# Altium footprint library Heat-Sinks.PcbLib: 58 footprints (part 3 of 4)
Each footprint in its own frame and in the unit in brackets; x right, y up, seen from the top. Pads: shape width x height; smd on the part's side, far side on the other; paste and mask are expansions set on the pad; w line width, h text height; cw(c..) or ccw(c..) is an arc to the next point about the centre after c.
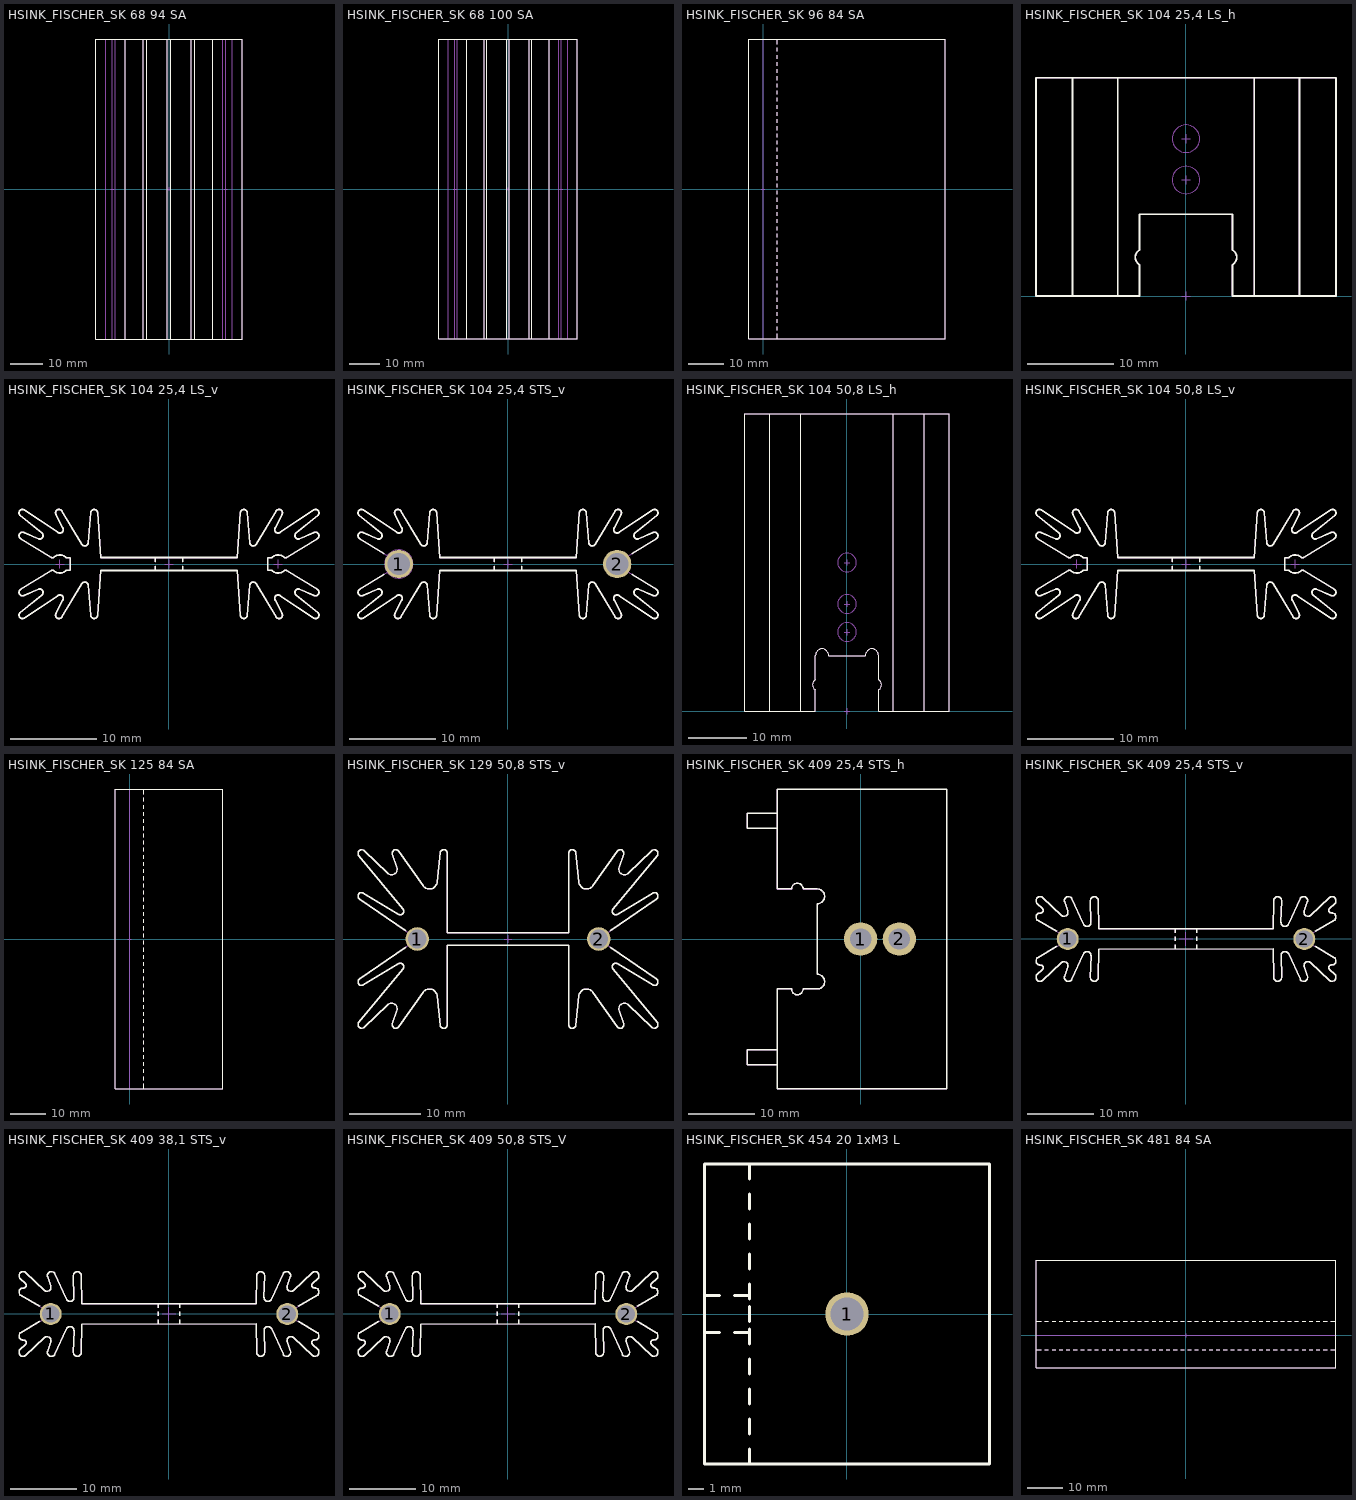
[diagram p2: the footprints below, top view; thin cyan lines are the x and y axes]

## HSINK_FISCHER_SK 68 94 SA [mm] "L94 x W46 x H33mm, Black anodised Extruded Heat Sink for PCB with Thread Profile for M3 Screw Mounting"
height 28
Top Overlay:
  lines w0.2: -13.75,-47 -13.75,47 ; -8,-47 -8,47 ; -7,-47 -7,47 ; -0.5,-47 -0.5,47 ; 0.5,-47 0.5,47 ; 7,-47 7,47 ; 8,-47 8,47 ; 13.75,-47 13.75,47 ; 17.8,-47 23,-47 ; 23,-47 23,47 -23,47 -23,-47 23,-47
Mechanical 8:
  lines w0.05: -18.3,0 -17.8,0 ; -17.8,-0.5 -17.8,0 ; -17.8,0.5 -17.8,0 ; -17.8,47 -17.8,-47 -17.8,0 ; -17.3,0 -17.8,0 ; -0.5,0 0,0 ; 0,-0.5 0,0 ; 0,0.5 0,0 ; 0.5,0 0,0 ; 17.3,0 17.8,0 ; 17.8,-47 17.8,47 ; 17.8,-0.5 17.8,0 ; 17.8,0.5 17.8,0 ; 18.3,0 17.8,0
Mechanical 14:
  lines w0.1: -19.875,-47 -19.875,47 ; -16.875,-47 -16.875,47 ; -13.75,-47 -13.75,47 ; -8,-47 -8,47 ; -7,-47 -7,47 ; -0.5,-47 -0.5,47 ; 0.5,-47 0.5,47 ; 7,-47 7,47 ; 8,-47 8,47 ; 13.75,-47 13.75,47 ; 16.875,-47 16.875,47 ; 17.8,-47 23,-47 ; 19.875,-47 19.875,47 ; 23,-47 23,47 -23,47 -23,-47 23,-47
3D body "HSINK_FISCHER_SK 68 94 SA.stp": height 33, standoff 0, extent -23,-47 23,47

## HSINK_FISCHER_SK 68 100 SA [mm] "L100 x W46 x H33mm, Black anodised Extruded Heat Sink for PCB with Thread Profile for M3 Screw Mounting"
height 28
Top Overlay:
  lines w0.2: -13.75,-50 -13.75,50 ; -8,-50 -8,50 ; -7,-50 -7,50 ; -0.5,-50 -0.5,50 ; 0.5,-50 0.5,50 ; 7,-50 7,50 ; 8,-50 8,50 ; 13.75,-50 13.75,50 ; -23,-50 -23,50 23,50 23,-50 -23,-50
Mechanical 8:
  lines w0.05: -18.3,0 -17.8,0 ; -17.8,-0.5 -17.8,0 ; -17.8,0.5 -17.8,0 ; -17.8,50 -17.8,-50 -17.8,0 ; -17.3,0 -17.8,0 ; -0.5,0 0,0 ; 0,-0.5 0,0 ; 0,0.5 0,0 ; 0.5,0 0,0 ; 17.3,0 17.8,0 ; 17.8,-50 17.8,50 ; 17.8,-0.5 17.8,0 ; 17.8,0.5 17.8,0 ; 18.3,0 17.8,0
Mechanical 14:
  lines w0.1: -19.875,-50 -19.875,50 ; -16.875,-50 -16.875,50 ; -13.75,-50 -13.75,50 ; -8,-50 -8,50 ; -7,-50 -7,50 ; -0.5,-50 -0.5,50 ; 0.5,-50 0.5,50 ; 7,-50 7,50 ; 8,-50 8,50 ; 13.75,-50 13.75,50 ; 16.875,-50 16.875,50 ; 19.875,-50 19.875,50 ; -23,-50 -23,50 23,50 23,-50 -23,-50
3D body "HSINK_FISCHER_SK 68 100 SA.stp": height 33, standoff 0, extent -23,-50 23,50

## HSINK_FISCHER_SK 96 84 SA [mm] "L84 x W55 x H28mm, Black anodised Extruded Heatsink for PCB with M3 Profile Thread for Screw Mounting"
height 28
Top Overlay:
  lines w0.2: 4,-42 4,-40.5 ; 4,-39.5 4,-38.5 ; 4,-37.5 4,-36.5 ; 4,-35.5 4,-34.5 ; 4,-33.5 4,-32.5 ; 4,-31.5 4,-30.5 ; 4,-29.5 4,-28.5 ; 4,-27.5 4,-26.5 ; 4,-25.5 4,-24.5 ; 4,-23.5 4,-22.5 ; 4,-21.5 4,-20.5 ; 4,-19.5 4,-18.5 ; 4,-17.5 4,-16.5 ; 4,-15.5 4,-14.5 ; 4,-13.5 4,-12.5 ; 4,-11.5 4,-10.5 ; 4,-9.5 4,-8.5 ; 4,-7.5 4,-6.5 ; 4,-5.5 4,-4.5 ; 4,-3.5 4,-2.5 ; 4,-1.5 4,-0.5 ; 4,0.5 4,1.5 ; 4,2.5 4,3.5 ; 4,4.5 4,5.5 ; 4,6.5 4,7.5 ; 4,8.5 4,9.5 ; 4,10.5 4,11.5 ; 4,12.5 4,13.5 ; 4,14.5 4,15.5 ; 4,16.5 4,17.5 ; 4,18.5 4,19.5 ; 4,20.5 4,21.5 ; 4,22.5 4,23.5 ; 4,24.5 4,25.5 ; 4,26.5 4,27.5 ; 4,28.5 4,29.5 ; 4,30.5 4,31.5 ; 4,32.5 4,33.5 ; 4,34.5 4,35.5 ; 4,36.5 4,37.5 ; 4,38.5 4,39.5 ; 4,40.5 4,42 ; -4,-42 51,-42 51,42 -4,42 -4,-42
Mechanical 8:
  lines w0.1: -0.5,0 0,0 ; 0,-42 0,42 ; 0,-0.5 0,0 ; 0,0.5 0,0 ; 0.5,0 0,0
Mechanical 14:
  lines w0.1: 4,-42 4,-40.5 ; 4,-39.5 4,-38.5 ; 4,-37.5 4,-36.5 ; 4,-35.5 4,-34.5 ; 4,-33.5 4,-32.5 ; 4,-31.5 4,-30.5 ; 4,-29.5 4,-28.5 ; 4,-27.5 4,-26.5 ; 4,-25.5 4,-24.5 ; 4,-23.5 4,-22.5 ; 4,-21.5 4,-20.5 ; 4,-19.5 4,-18.5 ; 4,-17.5 4,-16.5 ; 4,-15.5 4,-14.5 ; 4,-13.5 4,-12.5 ; 4,-11.5 4,-10.5 ; 4,-9.5 4,-8.5 ; 4,-7.5 4,-6.5 ; 4,-5.5 4,-4.5 ; 4,-3.5 4,-2.5 ; 4,-1.5 4,-0.5 ; 4,0.5 4,1.5 ; 4,2.5 4,3.5 ; 4,4.5 4,5.5 ; 4,6.5 4,7.5 ; 4,8.5 4,9.5 ; 4,10.5 4,11.5 ; 4,12.5 4,13.5 ; 4,14.5 4,15.5 ; 4,16.5 4,17.5 ; 4,18.5 4,19.5 ; 4,20.5 4,21.5 ; 4,22.5 4,23.5 ; 4,24.5 4,25.5 ; 4,26.5 4,27.5 ; 4,28.5 4,29.5 ; 4,30.5 4,31.5 ; 4,32.5 4,33.5 ; 4,34.5 4,35.5 ; 4,36.5 4,37.5 ; 4,38.5 4,39.5 ; 4,40.5 4,42 ; -4,-42 51,-42 51,42 -4,42 -4,-42
3D body "HSINK_FISCHER_SK 96 84 SA.stp": height 27.98, standoff -0.02, extent -4,-42 51,42

## HSINK_FISCHER_SK 104 25,4 LS_h [mm] "Extruded Heatsinks Rth: 14K/W  - Horizontal Mount  - Body L 25.4 x W 34.9 H 12.7mm"
height 25.4
Top Overlay:
  lines w0.2: -13.2,0 -13.2,25.4 ; -7.95,0 -7.95,25.4 ; 7.95,0 7.95,25.4 ; 13.2,0 13.2,25.4 ; -17.45,0 -17.45,25.4 17.45,25.4 17.45,0 5.4,0 5.4,3.634 ccw(c4.9,4.5) 5.4,5.366 5.4,9.5 -5.4,9.5 -5.4,5.366 ccw(c-4.9,4.5) -5.4,3.634 -5.4,0 -17.45,0
Mechanical 8:
  lines w0.1: -0.5,0 0,0 ; -0.5,13.5 0,13.5 ; -0.5,18.3 0,18.3 ; 0,-0.5 0,0 ; 0,0.5 0,0 ; 0,13 0,13.5 ; 0,14 0,13.5 ; 0,17.8 0,18.3 ; 0,18.8 0,18.3 ; 0.5,0 0,0 ; 0.5,13.5 0,13.5 ; 0.5,18.3 0,18.3
Mechanical 14:
  circle w0.1: c0,13.5 r1.6
  circle w0.1: c0,18.3 r1.6
  lines w0.1: -13.2,0 -13.2,25.4 ; -7.95,0 -7.95,25.4 ; 7.95,0 7.95,25.4 ; 13.2,0 13.2,25.4 ; -17.45,0 -17.45,25.4 17.45,25.4 17.45,0 5.4,0 5.4,3.634 ccw(c4.9,4.5) 5.4,5.366 5.4,9.5 -5.4,9.5 -5.4,5.366 ccw(c-4.9,4.5) -5.4,3.634 -5.4,0 -17.45,0
3D body "HSINK_FISCHER_SK 104 25,4 LS_h.stp": height 12.7, standoff 0, extent -17.449,0 17.449,25.4

## HSINK_FISCHER_SK 104 25,4 LS_v [mm] "Rth: 14K/W - Extruded Heatsinks for PCB mounting, Body L 34.9 x W 12.7 x H 25.4mm"
height 25.4
Top Overlay:
  lines w0.2: -1.6,-0.75 -1.6,-0.25 ; -1.6,0.25 -1.6,0.75 ; 1.6,-0.75 1.6,-0.25 ; 1.6,0.25 1.6,0.75 ; 13.379,-0.801 cw(c13.573,-1.03) 13.731,-0.775 17.261,-2.96 cw(c17.05,-3.3) 16.89,-3.667 15.21,-2.933 ccw(c15.05,-3.3) 14.798,-3.611 17.302,-5.639 cw(c17.05,-5.95) 16.827,-6.282 12.923,-3.668 ccw(c12.7,-4) 12.344,-4.182 13.156,-5.768 cw(c12.8,-5.95) 12.457,-6.156 10.143,-2.294 ccw(c9.8,-2.5) 9.402,-2.466 9.099,-5.984 cw(c8.7,-5.95) 8.301,-5.977 7.95,-0.75 -7.95,-0.75 -8.301,-5.977 cw(c-8.7,-5.95) -9.098,-5.984 -9.401,-2.466 ccw(c-9.8,-2.5) -10.143,-2.294 -12.457,-6.156 cw(c-12.8,-5.95) -13.156,-5.768 -12.344,-4.182 ccw(c-12.7,-4) -12.923,-3.668 -16.827,-6.282 cw(c-17.05,-5.95) -17.302,-5.639 -14.798,-3.611 ccw(c-15.05,-3.3) -15.21,-2.933 -16.89,-3.667 cw(c-17.05,-3.3) -17.26,-2.96 -13.731,-0.775 cw(c-13.573,-1.03) -13.379,-0.801 ccw(c-12.7,0) -11.945,-0.73 -11.5,-0.73 -11.5,0.73 -11.945,0.73 ccw(c-12.7,0) -13.379,0.801 cw(c-13.573,1.03) -13.731,0.775 -17.26,2.96 cw(c-17.05,3.3) -16.89,3.667 -15.21,2.933 ccw(c-15.05,3.3) -14.798,3.611 -17.302,5.639 cw(c-17.05,5.95) -16.827,6.282 -12.923,3.668 ccw(c-12.7,4) -12.344,4.182 -13.156,5.768 cw(c-12.8,5.95) -12.457,6.156 -10.143,2.294 ccw(c-9.8,2.5) -9.401,2.466 -9.098,5.984 cw(c-8.7,5.95) -8.301,5.977 -7.95,0.75 7.95,0.75 8.301,5.977 cw(c8.7,5.95) 9.099,5.984 9.402,2.466 ccw(c9.8,2.5) 10.143,2.294 12.457,6.156 cw(c12.8,5.95) 13.156,5.768 12.344,4.182 ccw(c12.7,4) 12.923,3.668 16.827,6.282 cw(c17.05,5.95) 17.302,5.639 14.798,3.611 ccw(c15.05,3.3) 15.21,2.933 16.89,3.667 cw(c17.05,3.3) 17.261,2.96 13.731,0.775 cw(c13.573,1.03) 13.379,0.801 ; 13.379,-0.801 cw(c12.7,0) 11.945,-0.73 11.5,-0.73 11.5,0.73 11.945,0.73 cw(c12.7,0) 13.379,0.801
Mechanical 8:
  lines w0.1: -13.2,0 -12.7,0 ; -12.7,-0.5 -12.7,0 ; -12.7,0.5 -12.7,0 ; -12.2,0 -12.7,0 ; -0.5,0 0,0 ; 0,-0.5 0,0 ; 0,0.5 0,0 ; 0.5,0 0,0 ; 12.2,0 12.7,0 ; 12.7,-0.5 12.7,0 ; 12.7,0.5 12.7,0 ; 13.2,0 12.7,0
Mechanical 14:
  lines w0.1: -1.6,-0.75 -1.6,-0.25 ; -1.6,0.25 -1.6,0.75 ; 1.6,-0.75 1.6,-0.25 ; 1.6,0.25 1.6,0.75 ; 13.379,-0.801 cw(c13.573,-1.03) 13.731,-0.775 17.261,-2.96 cw(c17.05,-3.3) 16.89,-3.667 15.21,-2.933 ccw(c15.05,-3.3) 14.798,-3.611 17.302,-5.639 cw(c17.05,-5.95) 16.827,-6.282 12.923,-3.668 ccw(c12.7,-4) 12.344,-4.182 13.156,-5.768 cw(c12.8,-5.95) 12.457,-6.156 10.143,-2.294 ccw(c9.8,-2.5) 9.402,-2.466 9.099,-5.984 cw(c8.7,-5.95) 8.301,-5.977 7.95,-0.75 -7.95,-0.75 -8.301,-5.977 cw(c-8.7,-5.95) -9.098,-5.984 -9.401,-2.466 ccw(c-9.8,-2.5) -10.143,-2.294 -12.457,-6.156 cw(c-12.8,-5.95) -13.156,-5.768 -12.344,-4.182 ccw(c-12.7,-4) -12.923,-3.668 -16.827,-6.282 cw(c-17.05,-5.95) -17.302,-5.639 -14.798,-3.611 ccw(c-15.05,-3.3) -15.21,-2.933 -16.89,-3.667 cw(c-17.05,-3.3) -17.26,-2.96 -13.731,-0.775 cw(c-13.573,-1.03) -13.379,-0.801 ccw(c-12.7,0) -11.945,-0.73 -11.5,-0.73 -11.5,0.73 -11.945,0.73 ccw(c-12.7,0) -13.379,0.801 cw(c-13.573,1.03) -13.731,0.775 -17.26,2.96 cw(c-17.05,3.3) -16.89,3.667 -15.21,2.933 ccw(c-15.05,3.3) -14.798,3.611 -17.302,5.639 cw(c-17.05,5.95) -16.827,6.282 -12.923,3.668 ccw(c-12.7,4) -12.344,4.182 -13.156,5.768 cw(c-12.8,5.95) -12.457,6.156 -10.143,2.294 ccw(c-9.8,2.5) -9.401,2.466 -9.098,5.984 cw(c-8.7,5.95) -8.301,5.977 -7.95,0.75 7.95,0.75 8.301,5.977 cw(c8.7,5.95) 9.099,5.984 9.402,2.466 ccw(c9.8,2.5) 10.143,2.294 12.457,6.156 cw(c12.8,5.95) 13.156,5.768 12.344,4.182 ccw(c12.7,4) 12.923,3.668 16.827,6.282 cw(c17.05,5.95) 17.302,5.639 14.798,3.611 ccw(c15.05,3.3) 15.21,2.933 16.89,3.667 cw(c17.05,3.3) 17.261,2.96 13.731,0.775 cw(c13.573,1.03) 13.379,0.801 ; 13.379,-0.801 cw(c12.7,0) 11.945,-0.73 11.5,-0.73 11.5,0.73 11.945,0.73 cw(c12.7,0) 13.379,0.801
3D body "HSINK_FISCHER_SK 104 25,4 LS_v.stp": height 25.4, standoff 0, extent -17.449,-6.35 17.449,6.35

## HSINK_FISCHER_SK 104 25,4 STS_v [mm] "Extruded Heatsink Rth: 14K/W, Vertical Mount With Solder Pins , Body L 34.9 x W 12.7 x H 25.4mm"
height 25.4
pads (2):
  round 3.3 hole 2.6: 1(-12.7,0) 2(12.7,0)
Top Overlay:
  lines w0.2: -14.464,-1.229 -17.26,-2.96 ccw(c-17.05,-3.3) -16.89,-3.667 -15.21,-2.933 cw(c-15.05,-3.3) -14.798,-3.611 -17.302,-5.639 ccw(c-17.05,-5.95) -16.827,-6.282 -12.922,-3.668 cw(c-12.7,-4) -12.344,-4.182 -13.156,-5.768 ccw(c-12.8,-5.95) -12.457,-6.156 -10.143,-2.294 cw(c-9.8,-2.5) -9.401,-2.466 -9.098,-5.984 ccw(c-8.7,-5.95) -8.301,-5.977 -7.95,-0.75 7.95,-0.75 8.301,-5.977 ccw(c8.7,-5.95) 9.099,-5.984 9.402,-2.466 cw(c9.8,-2.5) 10.143,-2.294 12.457,-6.156 ccw(c12.8,-5.95) 13.156,-5.768 12.344,-4.182 cw(c12.7,-4) 12.923,-3.668 16.828,-6.282 ccw(c17.05,-5.95) 17.302,-5.639 14.798,-3.611 cw(c15.05,-3.3) 15.21,-2.933 16.89,-3.667 ccw(c17.05,-3.3) 17.261,-2.96 14.464,-1.229 ; -14.464,1.229 -17.26,2.96 cw(c-17.05,3.3) -16.89,3.667 -15.21,2.933 ccw(c-15.05,3.3) -14.798,3.611 -17.302,5.639 cw(c-17.05,5.95) -16.827,6.282 -12.922,3.668 ccw(c-12.7,4) -12.344,4.182 -13.156,5.768 cw(c-12.8,5.95) -12.457,6.156 -10.143,2.294 ccw(c-9.8,2.5) -9.401,2.466 -9.098,5.984 cw(c-8.7,5.95) -8.301,5.977 -7.95,0.75 7.95,0.75 8.301,5.977 cw(c8.7,5.95) 9.099,5.984 9.402,2.466 ccw(c9.8,2.5) 10.143,2.294 12.457,6.156 cw(c12.8,5.95) 13.156,5.768 12.344,4.182 ccw(c12.7,4) 12.923,3.668 16.828,6.282 cw(c17.05,5.95) 17.302,5.639 14.798,3.611 ccw(c15.05,3.3) 15.21,2.933 16.89,3.667 cw(c17.05,3.3) 17.261,2.96 14.464,1.229 ; -1.6,-0.75 -1.6,-0.25 ; -1.6,0.25 -1.6,0.75 ; 1.6,-0.75 1.6,-0.25 ; 1.6,0.25 1.6,0.75
Mechanical 8:
  circle w0.1: c-12.7,0 r1.65
  circle w0.1: c-12.7,0 r1.3
  lines w0.1: -13.2,0 -12.7,0 ; -12.7,-0.5 -12.7,0 ; -12.7,0.5 -12.7,0 ; -12.2,0 -12.7,0 ; -0.5,0 0,0 ; 0,-0.5 0,0 ; 0,0.5 0,0 ; 0.5,0 0,0 ; 12.2,0 12.7,0 ; 12.7,-0.5 12.7,0 ; 12.7,0.5 12.7,0 ; 13.2,0 12.7,0
Mechanical 14:
  circle w0.1: c12.7,0 r1
  circle w0.1: c12.7,0 r0.75
  circle w0.1: c-12.7,0 r1
  circle w0.1: c-12.7,0 r0.75
  lines w0.1: -1.6,-0.75 -1.6,-0.25 ; -1.6,0.25 -1.6,0.75 ; 1.6,-0.75 1.6,-0.25 ; 1.6,0.25 1.6,0.75 ; -17.302,-5.639 ccw(c-17.05,-5.95) -16.827,-6.282 -12.922,-3.668 cw(c-12.7,-4) -12.344,-4.182 -13.156,-5.768 ccw(c-12.8,-5.95) -12.457,-6.156 -10.143,-2.294 cw(c-9.8,-2.5) -9.401,-2.466 -9.098,-5.984 ccw(c-8.7,-5.95) -8.301,-5.977 -7.95,-0.75 7.95,-0.75 8.301,-5.977 ccw(c8.7,-5.95) 9.099,-5.984 9.402,-2.466 cw(c9.8,-2.5) 10.143,-2.294 12.457,-6.156 ccw(c12.8,-5.95) 13.156,-5.768 12.344,-4.182 cw(c12.7,-4) 12.923,-3.668 16.828,-6.282 ccw(c17.05,-5.95) 17.302,-5.639 14.798,-3.611 cw(c15.05,-3.3) 15.21,-2.933 16.89,-3.667 ccw(c17.05,-3.3) 17.261,-2.96 13.731,-0.775 ccw(c13.573,-1.03) 13.379,-0.801 cw(c12.7,0) 11.945,-0.73 11.5,-0.73 11.5,0.73 11.945,0.73 cw(c12.7,0) 13.379,0.801 ccw(c13.573,1.03) 13.731,0.775 17.261,2.96 ccw(c17.05,3.3) 16.89,3.667 15.21,2.933 cw(c15.05,3.3) 14.798,3.611 17.302,5.639 ccw(c17.05,5.95) 16.828,6.282 12.923,3.668 cw(c12.7,4) 12.344,4.182 13.156,5.768 ccw(c12.8,5.95) 12.457,6.156 10.143,2.294 cw(c9.8,2.5) 9.402,2.466 9.099,5.984 ccw(c8.7,5.95) 8.301,5.977 7.95,0.75 -7.95,0.75 -8.301,5.977 ccw(c-8.7,5.95) -9.098,5.984 -9.401,2.466 cw(c-9.8,2.5) -10.143,2.294 -12.457,6.156 ccw(c-12.8,5.95) -13.156,5.768 -12.344,4.182 cw(c-12.7,4) -12.922,3.668 -16.827,6.282 ccw(c-17.05,5.95) -17.302,5.639 -14.798,3.611 cw(c-15.05,3.3) -15.21,2.933 -16.89,3.667 ccw(c-17.05,3.3) -17.26,2.96 -13.731,0.775 ccw(c-13.573,1.03) -13.379,0.801 cw(c-12.7,0) -11.945,0.73 -11.5,0.73 -11.5,-0.73 -11.945,-0.73 cw(c-12.7,0) -13.379,-0.801 ccw(c-13.573,-1.03) -13.731,-0.775 -17.26,-2.96 ccw(c-17.05,-3.3) -16.89,-3.667 -15.21,-2.933 cw(c-15.05,-3.3) -14.798,-3.611 -17.302,-5.639
3D body "HSINK_FISCHER_SK 104 25,4 STS_v.stp": height 25.4, standoff -4.5, extent -17.449,-6.35 17.449,6.35

## HSINK_FISCHER_SK 104 50,8 LS_h [mm] "Extruded Heatsinks Rth: 9K/W  - Horizontal Mount  - Body L 50.8 x W 34.9 H 12.7mm"
height 12.7
Top Overlay:
  lines w0.2: -13.2,0 -13.2,50.8 ; -13.2,0 -16.827,0 -17.45,0 -17.45,50.8 -16.827,50.8 -13.2,50.8 ; -13.2,0 -12.457,0 -10.143,0 -9.401,0 -9.098,0 -8.301,0 -7.95,0 ; -13.2,50.8 -12.457,50.8 -10.143,50.8 -9.401,50.8 -9.098,50.8 -8.301,50.8 -7.95,50.8 ; -7.95,0 -5.4,0 -5.4,3.634 cw(c-4.9,4.5) -5.4,5.366 -5.4,9.5 cw(c-4.27,9.5) -3.14,9.5 3.14,9.5 cw(c4.27,9.5) 5.4,9.5 5.4,5.366 cw(c4.9,4.5) 5.4,3.634 5.4,0 7.95,0 ; -7.95,0 -7.95,50.8 ; -7.95,50.8 7.95,50.8 ; 7.95,0 8.301,0 9.099,0 9.402,0 10.143,0 12.457,0 13.2,0 ; 7.95,0 7.95,50.8 ; 7.95,50.8 8.301,50.8 9.099,50.8 9.402,50.8 10.143,50.8 12.457,50.8 13.2,50.8 ; 13.2,0 13.2,50.8 ; 13.2,0 16.828,0 17.45,0 17.45,50.8 16.828,50.8 13.2,50.8
Mechanical 8:
  lines w0.05: -0.5,0 0,0 ; -0.5,13.5 0,13.5 ; -0.5,18.3 0,18.3 ; -0.5,25.4 0,25.4 ; 0,-0.5 0,0 ; 0,0.5 0,0 ; 0,13 0,13.5 ; 0,14 0,13.5 ; 0,17.8 0,18.3 ; 0,18.8 0,18.3 ; 0,24.9 0,25.4 ; 0,25.9 0,25.4 ; 0.5,0 0,0 ; 0.5,13.5 0,13.5 ; 0.5,18.3 0,18.3 ; 0.5,25.4 0,25.4
Mechanical 14:
  circle w0.1: c0,25.4 r1.6
  circle w0.1: c0,18.3 r1.6
  circle w0.1: c0,13.5 r1.6
  lines w0.1: -13.2,0 -13.2,50.8 ; -13.2,0 -16.827,0 -17.45,0 -17.45,50.8 -16.827,50.8 -13.2,50.8 ; -13.2,0 -12.457,0 -10.143,0 -9.401,0 -9.098,0 -8.301,0 -7.95,0 ; -13.2,50.8 -12.457,50.8 -10.143,50.8 -9.401,50.8 -9.098,50.8 -8.301,50.8 -7.95,50.8 ; -7.95,0 -5.4,0 -5.4,3.634 cw(c-4.9,4.5) -5.4,5.366 -5.4,9.5 cw(c-4.27,9.5) -3.14,9.5 3.14,9.5 cw(c4.27,9.5) 5.4,9.5 5.4,5.366 cw(c4.9,4.5) 5.4,3.634 5.4,0 7.95,0 ; -7.95,0 -7.95,50.8 ; -7.95,50.8 7.95,50.8 ; 7.95,0 8.301,0 9.099,0 9.402,0 10.143,0 12.457,0 13.2,0 ; 7.95,0 7.95,50.8 ; 7.95,50.8 8.301,50.8 9.099,50.8 9.402,50.8 10.143,50.8 12.457,50.8 13.2,50.8 ; 13.2,0 13.2,50.8 ; 13.2,0 16.828,0 17.45,0 17.45,50.8 16.828,50.8 13.2,50.8
3D body "HSINK_FISCHER_SK 104 50,8 LS_h.stp": height 12.7, standoff 0, extent -17.449,0 17.449,50.8

## HSINK_FISCHER_SK 104 50,8 LS_v [mm] "Rth: 9K/W - Extruded Heatsinks for PCB mounting, Body L 34.9 x W 12.7 x H 50.8mm"
height 50.8
Top Overlay:
  lines w0.2: -1.6,-0.75 -1.6,-0.25 ; -1.6,0.25 -1.6,0.75 ; 1.6,-0.75 1.6,-0.25 ; 1.6,0.25 1.6,0.75 ; 13.379,-0.801 cw(c13.573,-1.03) 13.731,-0.775 17.261,-2.96 cw(c17.05,-3.3) 16.89,-3.667 15.21,-2.933 ccw(c15.05,-3.3) 14.798,-3.611 17.302,-5.639 cw(c17.05,-5.95) 16.827,-6.282 12.923,-3.668 ccw(c12.7,-4) 12.344,-4.182 13.156,-5.768 cw(c12.8,-5.95) 12.457,-6.156 10.143,-2.294 ccw(c9.8,-2.5) 9.402,-2.466 9.099,-5.984 cw(c8.7,-5.95) 8.301,-5.977 7.95,-0.75 -7.95,-0.75 -8.301,-5.977 cw(c-8.7,-5.95) -9.098,-5.984 -9.401,-2.466 ccw(c-9.8,-2.5) -10.143,-2.294 -12.457,-6.156 cw(c-12.8,-5.95) -13.156,-5.768 -12.344,-4.182 ccw(c-12.7,-4) -12.923,-3.668 -16.827,-6.282 cw(c-17.05,-5.95) -17.302,-5.639 -14.798,-3.611 ccw(c-15.05,-3.3) -15.21,-2.933 -16.89,-3.667 cw(c-17.05,-3.3) -17.26,-2.96 -13.731,-0.775 cw(c-13.573,-1.03) -13.379,-0.801 ccw(c-12.7,0) -11.945,-0.73 -11.5,-0.73 -11.5,0.73 -11.945,0.73 ccw(c-12.7,0) -13.379,0.801 cw(c-13.573,1.03) -13.731,0.775 -17.26,2.96 cw(c-17.05,3.3) -16.89,3.667 -15.21,2.933 ccw(c-15.05,3.3) -14.798,3.611 -17.302,5.639 cw(c-17.05,5.95) -16.827,6.282 -12.923,3.668 ccw(c-12.7,4) -12.344,4.182 -13.156,5.768 cw(c-12.8,5.95) -12.457,6.156 -10.143,2.294 ccw(c-9.8,2.5) -9.401,2.466 -9.098,5.984 cw(c-8.7,5.95) -8.301,5.977 -7.95,0.75 7.95,0.75 8.301,5.977 cw(c8.7,5.95) 9.099,5.984 9.402,2.466 ccw(c9.8,2.5) 10.143,2.294 12.457,6.156 cw(c12.8,5.95) 13.156,5.768 12.344,4.182 ccw(c12.7,4) 12.923,3.668 16.827,6.282 cw(c17.05,5.95) 17.302,5.639 14.798,3.611 ccw(c15.05,3.3) 15.21,2.933 16.89,3.667 cw(c17.05,3.3) 17.261,2.96 13.731,0.775 cw(c13.573,1.03) 13.379,0.801 ; 13.379,-0.801 cw(c12.7,0) 11.945,-0.73 11.5,-0.73 11.5,0.73 11.945,0.73 cw(c12.7,0) 13.379,0.801
Mechanical 8:
  lines w0.1: -13.2,0 -12.7,0 ; -12.7,-0.5 -12.7,0 ; -12.7,0.5 -12.7,0 ; -12.2,0 -12.7,0 ; -0.5,0 0,0 ; 0,-0.5 0,0 ; 0,0.5 0,0 ; 0.5,0 0,0 ; 12.2,0 12.7,0 ; 12.7,-0.5 12.7,0 ; 12.7,0.5 12.7,0 ; 13.2,0 12.7,0
Mechanical 14:
  lines w0.1: -1.6,-0.75 -1.6,-0.25 ; -1.6,0.25 -1.6,0.75 ; 1.6,-0.75 1.6,-0.25 ; 1.6,0.25 1.6,0.75 ; 13.379,-0.801 cw(c13.573,-1.03) 13.731,-0.775 17.261,-2.96 cw(c17.05,-3.3) 16.89,-3.667 15.21,-2.933 ccw(c15.05,-3.3) 14.798,-3.611 17.302,-5.639 cw(c17.05,-5.95) 16.827,-6.282 12.923,-3.668 ccw(c12.7,-4) 12.344,-4.182 13.156,-5.768 cw(c12.8,-5.95) 12.457,-6.156 10.143,-2.294 ccw(c9.8,-2.5) 9.402,-2.466 9.099,-5.984 cw(c8.7,-5.95) 8.301,-5.977 7.95,-0.75 -7.95,-0.75 -8.301,-5.977 cw(c-8.7,-5.95) -9.098,-5.984 -9.401,-2.466 ccw(c-9.8,-2.5) -10.143,-2.294 -12.457,-6.156 cw(c-12.8,-5.95) -13.156,-5.768 -12.344,-4.182 ccw(c-12.7,-4) -12.923,-3.668 -16.827,-6.282 cw(c-17.05,-5.95) -17.302,-5.639 -14.798,-3.611 ccw(c-15.05,-3.3) -15.21,-2.933 -16.89,-3.667 cw(c-17.05,-3.3) -17.26,-2.96 -13.731,-0.775 cw(c-13.573,-1.03) -13.379,-0.801 ccw(c-12.7,0) -11.945,-0.73 -11.5,-0.73 -11.5,0.73 -11.945,0.73 ccw(c-12.7,0) -13.379,0.801 cw(c-13.573,1.03) -13.731,0.775 -17.26,2.96 cw(c-17.05,3.3) -16.89,3.667 -15.21,2.933 ccw(c-15.05,3.3) -14.798,3.611 -17.302,5.639 cw(c-17.05,5.95) -16.827,6.282 -12.923,3.668 ccw(c-12.7,4) -12.344,4.182 -13.156,5.768 cw(c-12.8,5.95) -12.457,6.156 -10.143,2.294 ccw(c-9.8,2.5) -9.401,2.466 -9.098,5.984 cw(c-8.7,5.95) -8.301,5.977 -7.95,0.75 7.95,0.75 8.301,5.977 cw(c8.7,5.95) 9.099,5.984 9.402,2.466 ccw(c9.8,2.5) 10.143,2.294 12.457,6.156 cw(c12.8,5.95) 13.156,5.768 12.344,4.182 ccw(c12.7,4) 12.923,3.668 16.827,6.282 cw(c17.05,5.95) 17.302,5.639 14.798,3.611 ccw(c15.05,3.3) 15.21,2.933 16.89,3.667 cw(c17.05,3.3) 17.261,2.96 13.731,0.775 cw(c13.573,1.03) 13.379,0.801 ; 13.379,-0.801 cw(c12.7,0) 11.945,-0.73 11.5,-0.73 11.5,0.73 11.945,0.73 cw(c12.7,0) 13.379,0.801
3D body "HSINK_FISCHER_SK 104 50,8 LS_v.stp": height 50.8, standoff 0, extent -17.449,-6.35 17.449,6.35

## HSINK_FISCHER_SK 125 84 SA [mm] "L84 x W30 x H28mm, Black anodised Extruded Heatsink for PCB with M3 Profile Thread for Screw Mounting"
height 28
Top Overlay:
  lines w0.2: 4,-42 4,-40.5 ; 4,-39.5 4,-38.5 ; 4,-37.5 4,-36.5 ; 4,-35.5 4,-34.5 ; 4,-33.5 4,-32.5 ; 4,-31.5 4,-30.5 ; 4,-29.5 4,-28.5 ; 4,-27.5 4,-26.5 ; 4,-25.5 4,-24.5 ; 4,-23.5 4,-22.5 ; 4,-21.5 4,-20.5 ; 4,-19.5 4,-18.5 ; 4,-17.5 4,-16.5 ; 4,-15.5 4,-14.5 ; 4,-13.5 4,-12.5 ; 4,-11.5 4,-10.5 ; 4,-9.5 4,-8.5 ; 4,-7.5 4,-6.5 ; 4,-5.5 4,-4.5 ; 4,-3.5 4,-2.5 ; 4,-1.5 4,-0.5 ; 4,0.5 4,1.5 ; 4,2.5 4,3.5 ; 4,4.5 4,5.5 ; 4,6.5 4,7.5 ; 4,8.5 4,9.5 ; 4,10.5 4,11.5 ; 4,12.5 4,13.5 ; 4,14.5 4,15.5 ; 4,16.5 4,17.5 ; 4,18.5 4,19.5 ; 4,20.5 4,21.5 ; 4,22.5 4,23.5 ; 4,24.5 4,25.5 ; 4,26.5 4,27.5 ; 4,28.5 4,29.5 ; 4,30.5 4,31.5 ; 4,32.5 4,33.5 ; 4,34.5 4,35.5 ; 4,36.5 4,37.5 ; 4,38.5 4,39.5 ; 4,40.5 4,42 ; 26,-42 26,42 -4,42 -4,-42 26,-42
Mechanical 8:
  lines w0.1: -0.5,0 0,0 ; 0,-42 0,42 ; 0,-0.5 0,0 ; 0,0.5 0,0 ; 0.5,0 0,0
Mechanical 14:
  lines w0.1: 4,-42 4,-40.5 ; 4,-39.5 4,-38.5 ; 4,-37.5 4,-36.5 ; 4,-35.5 4,-34.5 ; 4,-33.5 4,-32.5 ; 4,-31.5 4,-30.5 ; 4,-29.5 4,-28.5 ; 4,-27.5 4,-26.5 ; 4,-25.5 4,-24.5 ; 4,-23.5 4,-22.5 ; 4,-21.5 4,-20.5 ; 4,-19.5 4,-18.5 ; 4,-17.5 4,-16.5 ; 4,-15.5 4,-14.5 ; 4,-13.5 4,-12.5 ; 4,-11.5 4,-10.5 ; 4,-9.5 4,-8.5 ; 4,-7.5 4,-6.5 ; 4,-5.5 4,-4.5 ; 4,-3.5 4,-2.5 ; 4,-1.5 4,-0.5 ; 4,0.5 4,1.5 ; 4,2.5 4,3.5 ; 4,4.5 4,5.5 ; 4,6.5 4,7.5 ; 4,8.5 4,9.5 ; 4,10.5 4,11.5 ; 4,12.5 4,13.5 ; 4,14.5 4,15.5 ; 4,16.5 4,17.5 ; 4,18.5 4,19.5 ; 4,20.5 4,21.5 ; 4,22.5 4,23.5 ; 4,24.5 4,25.5 ; 4,26.5 4,27.5 ; 4,28.5 4,29.5 ; 4,30.5 4,31.5 ; 4,32.5 4,33.5 ; 4,34.5 4,35.5 ; 4,36.5 4,37.5 ; 4,38.5 4,39.5 ; 4,40.5 4,42 ; 26,-42 26,42 -4,42 -4,-42 26,-42
3D body "HSINK_FISCHER_SK 125 84 SA.stp": height 27.98, standoff -0.02, extent -4,-42 26,42

## HSINK_FISCHER_SK 129 50,8 STS_v [mm] "Extruded Heat Sink Rth: 5.3°C/W  - Vertical Mount - Height 50.8mm, Vertical Mount"
height 50.8
pads (2):
  round 3.3 hole 2.6: 1(-12.7,0) 2(12.7,0)
Top Overlay:
  lines w0.2: -14.345,-1.137 -20.784,-5.589 ccw(c-20.5,-6) -20.241,-6.428 -15.359,-3.472 cw(c-15.1,-3.9) -14.715,-4.219 -20.885,-11.681 ccw(c-20.5,-12) -20.155,-12.362 -16.851,-9.22 cw(c-16.3,-9.8) -15.546,-10.067 -16.171,-11.833 ccw(c-15.7,-12) -15.291,-12.288 -11.9,-7.467 cw(c-11,-8.1) -9.905,-7.99 -9.497,-12.05 ccw(c-9,-12) -8.5,-12 -8.5,-0.9 8.5,-0.9 8.5,-12 ccw(c9,-12) 9.498,-12.05 9.906,-7.99 cw(c11,-8.1) 11.9,-7.467 15.291,-12.288 ccw(c15.7,-12) 16.171,-11.833 15.546,-10.067 cw(c16.3,-9.8) 16.851,-9.22 20.156,-12.362 ccw(c20.5,-12) 20.885,-11.681 14.715,-4.219 cw(c15.1,-3.9) 15.359,-3.472 20.241,-6.428 ccw(c20.5,-6) 20.784,-5.589 14.345,-1.137 ; -14.345,1.137 -20.784,5.589 cw(c-20.5,6) -20.241,6.428 -15.359,3.472 ccw(c-15.1,3.9) -14.715,4.219 -20.885,11.681 cw(c-20.5,12) -20.155,12.362 -16.851,9.22 ccw(c-16.3,9.8) -15.546,10.067 -16.171,11.833 cw(c-15.7,12) -15.291,12.288 -11.9,7.467 ccw(c-11,8.1) -9.905,7.99 -9.497,12.05 cw(c-9,12) -8.5,12 -8.5,0.9 8.5,0.9 8.5,12 cw(c9,12) 9.498,12.05 9.906,7.99 ccw(c11,8.1) 11.9,7.467 15.291,12.288 cw(c15.7,12) 16.171,11.833 15.546,10.067 ccw(c16.3,9.8) 16.851,9.22 20.156,12.362 cw(c20.5,12) 20.885,11.681 14.715,4.219 ccw(c15.1,3.9) 15.359,3.472 20.241,6.428 cw(c20.5,6) 20.784,5.589 14.345,1.137
Mechanical 8:
  lines w0.05: -13.2,0 -12.7,0 ; -12.7,-0.5 -12.7,0 ; -12.7,0.5 -12.7,0 ; -12.2,0 -12.7,0 ; -0.5,0 0,0 ; 0,-0.5 0,0 ; 0,0.5 0,0 ; 0.5,0 0,0 ; 12.2,0 12.7,0 ; 12.7,-0.5 12.7,0 ; 12.7,0.5 12.7,0 ; 13.2,0 12.7,0
Mechanical 14:
  lines w0.1: -13.616,0.695 ccw(c-12.7,0) -13.61,-0.704 ; -11.784,-0.695 ccw(c-12.7,0) -11.784,0.695 ; 11.784,-0.695 cw(c12.7,0) 11.55,0 cw(c12.7,0) 11.784,0.695 ; 13.616,-0.695 ccw(c12.7,0) 13.616,0.695 ; -20.885,-11.681 ccw(c-20.5,-12) -20.155,-12.362 -16.851,-9.22 cw(c-16.3,-9.8) -15.546,-10.067 -16.171,-11.833 ccw(c-15.7,-12) -15.291,-12.288 -11.9,-7.467 cw(c-11,-8.1) -9.905,-7.99 -9.497,-12.05 ccw(c-9,-12) -8.5,-12 -8.5,-0.9 8.5,-0.9 8.5,-12 ccw(c9,-12) 9.498,-12.05 9.906,-7.99 cw(c11,-8.1) 11.9,-7.467 15.291,-12.288 ccw(c15.7,-12) 16.171,-11.833 15.546,-10.067 cw(c16.3,-9.8) 16.851,-9.22 20.156,-12.362 ccw(c20.5,-12) 20.885,-11.681 14.715,-4.219 cw(c15.1,-3.9) 15.359,-3.472 20.241,-6.428 ccw(c20.5,-6) 20.784,-5.589 13.783,-0.748 ccw(c13.612,-0.995) 13.41,-0.774 cw(c12.7,0) 11.913,-0.695 11.5,-0.695 11.5,0.695 11.913,0.695 cw(c12.7,0) 13.41,0.774 ccw(c13.612,0.995) 13.783,0.748 20.784,5.589 ccw(c20.5,6) 20.241,6.428 15.359,3.472 cw(c15.1,3.9) 14.715,4.219 20.885,11.681 ccw(c20.5,12) 20.156,12.362 16.851,9.22 cw(c16.3,9.8) 15.546,10.067 16.171,11.833 ccw(c15.7,12) 15.291,12.288 11.9,7.467 cw(c11,8.1) 9.906,7.99 9.498,12.05 ccw(c9,12) 8.5,12 8.5,0.9 -8.5,0.9 -8.5,12 ccw(c-9,12) -9.497,12.05 -9.905,7.99 cw(c-11,8.1) -11.9,7.467 -15.291,12.288 ccw(c-15.7,12) -16.171,11.833 -15.546,10.067 cw(c-16.3,9.8) -16.851,9.22 -20.155,12.362 ccw(c-20.5,12) -20.885,11.681 -14.715,4.219 cw(c-15.1,3.9) -15.359,3.472 -20.241,6.428 ccw(c-20.5,6) -20.784,5.589 -13.783,0.748 ccw(c-13.612,0.995) -13.41,0.774 cw(c-12.7,0) -11.913,0.695 -11.5,0.695 -11.5,-0.695 -11.913,-0.695 cw(c-12.7,0) -13.41,-0.774 ccw(c-13.612,-0.995) -13.783,-0.748 -20.784,-5.589 ccw(c-20.5,-6) -20.241,-6.428 -15.359,-3.472 cw(c-15.1,-3.9) -14.715,-4.219 -20.885,-11.681
3D body "HSINK_FISCHER_SK 129 50,8 STS_v.stp": height 50.8, standoff -4.5, extent -20.999,-12.5 20.999,12.5

## HSINK_FISCHER_SK 409 25,4 STS_h [mm] "Rth: 8.2°C/W - Extruded Heatsinks for PCB mounting"
height 25.4
pads (2):
  round 5 hole 3.2: 1(0,0) 2(5.8,0.001)
Top Overlay:
  lines w0.2: -12.5,-18.899 -17,-18.899 -17,-16.599 -12.5,-16.599 ; -12.5,16.601 -17,16.601 -17,18.901 -12.5,18.901 ; -12.5,-22.5 12.9,-22.498 12.9,22.501 -12.5,22.5 -12.5,7.501 -10.366,7.501 cw(c-9.5,7.501) -8.634,7.501 -6.5,7.501 cw(c-6.5,6.401) -6.5,5.301 -6.5,-5.299 cw(c-6.5,-6.399) -6.5,-7.499 -8.634,-7.499 cw(c-9.5,-7.499) -10.366,-7.499 -12.5,-7.499 -12.5,-22.5
Mechanical 8:
  lines w0.1: 4.8,0.001 5.8,0.001 ; 5.8,-0.999 5.8,0.001 ; 5.8,1.001 5.8,0.001 ; 6.8,0.001 5.8,0.001 ; 0,0 1,0 0,0 ; 0,0 -1,0 0,0 ; 0,0 0,-1 0,0 ; 0,0 0,1 0,0
Mechanical 14:
  circle w0.1: c0,0 r1.6
  circle w0.1: c5.8,0 r1.6
  lines w0.1: -12.5,-18.9 -17,-18.9 -17,-16.6 -12.5,-16.6 ; -12.5,16.6 -17,16.6 -17,18.9 -12.5,18.9 ; -12.5,-22.501 12.9,-22.5 12.9,22.5 -12.5,22.499 -12.5,7.5 -10.366,7.5 cw(c-9.5,7.5) -8.634,7.5 -6.5,7.5 cw(c-6.5,6.4) -6.5,5.3 -6.5,-5.3 cw(c-6.5,-6.4) -6.5,-7.5 -8.634,-7.5 cw(c-9.5,-7.5) -10.366,-7.5 -12.5,-7.5 -12.5,-22.501
3D body "HSINK_FISCHER_SK 409 25,4 STS_H.stp": height 12.7, standoff 0, extent -17,-22.5 12.9,22.501

## HSINK_FISCHER_SK 409 25,4 STS_v [mm] "Rth: 8.2°C/W - Extruded Heatsinks for PCB mounting"
height 25.4
pads (2):
  round 3.3 hole 2.6: 1(-17.75,0.002) 2(17.75,-0.004)
Top Overlay:
  lines w0.2: -19.405,1.124 -22.206,2.785 cw(c-21.9,3.301) -21.851,3.899 ccw(c-21.818,4.298) -21.543,4.588 -22.312,5.315 cw(c-21.9,5.751) -21.488,6.187 -18.712,3.565 ccw(c-18.3,4.001) -17.735,4.203 -18.215,5.549 cw(c-17.65,5.751) -17.104,6 -15.396,2.252 ccw(c-14.85,2.501) -14.251,2.52 -14.35,5.732 cw(c-13.75,5.751) -13.15,5.758 -13.1,1.501 13.1,1.501 13.15,5.758 cw(c13.75,5.751) 14.349,5.732 14.25,2.52 ccw(c14.85,2.501) 15.396,2.252 17.103,6 cw(c17.649,5.751) 18.214,5.55 17.734,4.203 ccw(c18.299,4.002) 18.712,3.565 21.487,6.188 cw(c21.899,5.752) 22.311,5.316 21.542,4.589 ccw(c21.817,4.299) 21.85,3.9 ; -19.403,-1.126 -22.206,-2.788 ccw(c-21.9,-3.304) -21.85,-3.902 cw(c-21.817,-4.301) -21.542,-4.591 -22.311,-5.318 ccw(c-21.899,-5.754) -21.487,-6.19 -18.711,-3.567 cw(c-18.299,-4.004) -17.734,-4.205 -18.214,-5.552 ccw(c-17.649,-5.753) -17.103,-6.002 -15.396,-2.254 cw(c-14.85,-2.503) -14.25,-2.522 -14.349,-5.734 ccw(c-13.749,-5.752) -13.149,-5.759 -13.1,-1.503 13.1,-1.499 13.151,-5.76 ccw(c13.751,-5.753) 14.351,-5.734 14.251,-2.518 cw(c14.85,-2.499) 15.396,-2.25 17.105,-5.997 ccw(c17.651,-5.748) 18.216,-5.547 17.736,-4.2 cw(c18.301,-3.998) 18.713,-3.562 21.489,-6.184 ccw(c21.901,-5.748) 22.313,-5.312 21.544,-4.585 cw(c21.818,-4.295) 21.851,-3.896 ccw(c21.901,-3.298) 22.207,-2.782 19.405,-1.122 ; -1.6,-1.501 -1.6,-0.899 ; -1.6,-0.299 -1.6,0.301 ; -1.6,0.901 -1.6,1.501 ; 1.6,-1.501 1.6,-0.899 ; 1.6,-0.299 1.6,0.301 ; 1.6,0.901 1.6,1.501 ; 19.405,1.125 22.206,2.786 ccw(c21.898,3.303) 21.817,3.899
Mechanical 8:
  lines w0.1: -18.75,0.002 -17.75,0.002 ; -17.75,-0.998 -17.75,0.002 ; -17.75,1.002 -17.75,0.002 ; -16.75,0.002 -17.75,0.002 ; -1,0 0,0 ; 0,-1 0,0 ; 0,1 0,0 ; 1,0 0,0 ; 16.75,-0.004 17.75,-0.004 ; 17.75,-1.004 17.75,-0.004 ; 17.75,0.996 17.75,-0.004 ; 18.75,-0.004 17.75,-0.004
Mechanical 14:
  circle w0.1: c17.75,-0.004 r1.15
  circle w0.1: c-17.75,-0.004 r1.15
  lines w0.1: -1.6,-1.501 -1.6,-0.899 ; -1.6,-0.299 -1.6,0.301 ; -1.6,0.901 -1.6,1.501 ; 1.6,-1.501 1.6,-0.899 ; 1.6,-0.299 1.6,0.301 ; 1.6,0.901 1.6,1.501 ; 21.817,3.899 cw(c21.898,3.303) 22.206,2.786 18.79,0.761 cw(c18.637,1.019) 18.44,0.793 ccw(c17.75,0.002) 16.983,0.719 16.55,0.719 16.55,-0.716 16.983,-0.716 ccw(c17.75,0.002) 18.44,-0.79 cw(c18.638,-1.016) 18.791,-0.758 22.207,-2.782 cw(c21.901,-3.298) 21.851,-3.896 ccw(c21.818,-4.295) 21.544,-4.585 22.313,-5.312 cw(c21.901,-5.748) 21.489,-6.184 18.713,-3.562 ccw(c18.301,-3.998) 17.736,-4.2 18.216,-5.547 cw(c17.651,-5.748) 17.105,-5.997 15.396,-2.25 ccw(c14.85,-2.499) 14.251,-2.518 14.351,-5.734 cw(c13.751,-5.753) 13.151,-5.76 13.1,-1.499 -13.1,-1.503 -13.149,-5.759 cw(c-13.749,-5.752) -14.349,-5.734 -14.25,-2.522 ccw(c-14.85,-2.503) -15.396,-2.254 -17.103,-6.002 cw(c-17.649,-5.753) -18.214,-5.552 -17.734,-4.205 ccw(c-18.299,-4.004) -18.711,-3.567 -21.487,-6.19 cw(c-21.899,-5.754) -22.311,-5.318 -21.542,-4.591 ccw(c-21.817,-4.301) -21.85,-3.902 cw(c-21.9,-3.304) -22.206,-2.788 -18.79,-0.763 cw(c-18.637,-1.021) -18.44,-0.795 ccw(c-17.75,-0.004) -16.983,-0.721 -16.55,-0.721 -16.55,0.718 -16.984,0.718 ccw(c-17.75,0.001) -18.441,0.792 cw(c-18.638,1.018) -18.791,0.76 -22.206,2.785 cw(c-21.9,3.301) -21.851,3.899 ccw(c-21.818,4.298) -21.543,4.588 -22.312,5.315 cw(c-21.9,5.751) -21.488,6.187 -18.712,3.565 ccw(c-18.3,4.001) -17.735,4.203 -18.215,5.549 cw(c-17.65,5.751) -17.104,6 -15.396,2.252 ccw(c-14.85,2.501) -14.251,2.52 -14.35,5.732 cw(c-13.75,5.751) -13.15,5.758 -13.1,1.501 13.1,1.501 13.15,5.758 cw(c13.75,5.751) 14.349,5.732 14.25,2.52 ccw(c14.85,2.501) 15.396,2.252 17.103,6 cw(c17.649,5.751) 18.214,5.55 17.734,4.203 ccw(c18.299,4.002) 18.712,3.565 21.487,6.188 cw(c21.899,5.752) 22.311,5.316 21.542,4.589 ccw(c21.817,4.299) 21.85,3.9
3D body "HSINK_FISCHER_SK 409 25,4 STS_V.stp": height 25.4, standoff -4.5, extent -22.501,-6.354 22.5,6.352

## HSINK_FISCHER_SK 409 38,1 STS_v [mm] "Rth: 7°C/W - Extruded Heatsinks for PCB mounting"
height 38.1
pads (2):
  round 3.3 hole 2.6: 1(-17.75,0.002) 2(17.75,-0.004)
Top Overlay:
  lines w0.2: -19.405,1.124 -22.206,2.785 cw(c-21.9,3.301) -21.851,3.899 ccw(c-21.818,4.298) -21.543,4.588 -22.312,5.315 cw(c-21.9,5.751) -21.488,6.187 -18.712,3.565 ccw(c-18.3,4.001) -17.735,4.203 -18.215,5.549 cw(c-17.65,5.751) -17.104,6 -15.396,2.252 ccw(c-14.85,2.501) -14.251,2.52 -14.35,5.732 cw(c-13.75,5.751) -13.15,5.758 -13.1,1.501 13.1,1.501 13.15,5.758 cw(c13.75,5.751) 14.349,5.732 14.25,2.52 ccw(c14.85,2.501) 15.396,2.252 17.103,6 cw(c17.649,5.751) 18.214,5.55 17.734,4.203 ccw(c18.299,4.002) 18.712,3.565 21.487,6.188 cw(c21.899,5.752) 22.311,5.316 21.542,4.589 ccw(c21.817,4.299) 21.85,3.9 ; -19.403,-1.126 -22.206,-2.788 ccw(c-21.9,-3.304) -21.85,-3.902 cw(c-21.817,-4.301) -21.542,-4.591 -22.311,-5.318 ccw(c-21.899,-5.754) -21.487,-6.19 -18.711,-3.567 cw(c-18.299,-4.004) -17.734,-4.205 -18.214,-5.552 ccw(c-17.649,-5.753) -17.103,-6.002 -15.396,-2.254 cw(c-14.85,-2.503) -14.25,-2.522 -14.349,-5.734 ccw(c-13.749,-5.752) -13.149,-5.759 -13.1,-1.503 13.1,-1.499 13.151,-5.76 ccw(c13.751,-5.753) 14.351,-5.734 14.251,-2.518 cw(c14.85,-2.499) 15.396,-2.25 17.105,-5.997 ccw(c17.651,-5.748) 18.216,-5.547 17.736,-4.2 cw(c18.301,-3.998) 18.713,-3.562 21.489,-6.184 ccw(c21.901,-5.748) 22.313,-5.312 21.544,-4.585 cw(c21.818,-4.295) 21.851,-3.896 ccw(c21.901,-3.298) 22.207,-2.782 19.405,-1.122 ; -1.6,-1.501 -1.6,-0.899 ; -1.6,-0.299 -1.6,0.301 ; -1.6,0.901 -1.6,1.501 ; 1.6,-1.501 1.6,-0.899 ; 1.6,-0.299 1.6,0.301 ; 1.6,0.901 1.6,1.501 ; 19.405,1.125 22.206,2.786 ccw(c21.898,3.303) 21.817,3.899
Mechanical 8:
  lines w0.1: -18.75,0.002 -17.75,0.002 ; -17.75,-0.998 -17.75,0.002 ; -17.75,1.002 -17.75,0.002 ; -16.75,0.002 -17.75,0.002 ; -1,0 0,0 ; 0,-1 0,0 ; 0,1 0,0 ; 1,0 0,0 ; 16.75,-0.004 17.75,-0.004 ; 17.75,-1.004 17.75,-0.004 ; 17.75,0.996 17.75,-0.004 ; 18.75,-0.004 17.75,-0.004
Mechanical 14:
  circle w0.1: c17.75,-0.004 r1.15
  circle w0.1: c-17.75,-0.004 r1.15
  lines w0.1: -1.6,-1.501 -1.6,-0.899 ; -1.6,-0.299 -1.6,0.301 ; -1.6,0.901 -1.6,1.501 ; 1.6,-1.501 1.6,-0.899 ; 1.6,-0.299 1.6,0.301 ; 1.6,0.901 1.6,1.501 ; 21.817,3.899 cw(c21.898,3.303) 22.206,2.786 18.79,0.761 cw(c18.637,1.019) 18.44,0.793 ccw(c17.75,0.002) 16.983,0.719 16.55,0.719 16.55,-0.716 16.983,-0.716 ccw(c17.75,0.002) 18.44,-0.79 cw(c18.638,-1.016) 18.791,-0.758 22.207,-2.782 cw(c21.901,-3.298) 21.851,-3.896 ccw(c21.818,-4.295) 21.544,-4.585 22.313,-5.312 cw(c21.901,-5.748) 21.489,-6.184 18.713,-3.562 ccw(c18.301,-3.998) 17.736,-4.2 18.216,-5.547 cw(c17.651,-5.748) 17.105,-5.997 15.396,-2.25 ccw(c14.85,-2.499) 14.251,-2.518 14.351,-5.734 cw(c13.751,-5.753) 13.151,-5.76 13.1,-1.499 -13.1,-1.503 -13.149,-5.759 cw(c-13.749,-5.752) -14.349,-5.734 -14.25,-2.522 ccw(c-14.85,-2.503) -15.396,-2.254 -17.103,-6.002 cw(c-17.649,-5.753) -18.214,-5.552 -17.734,-4.205 ccw(c-18.299,-4.004) -18.711,-3.567 -21.487,-6.19 cw(c-21.899,-5.754) -22.311,-5.318 -21.542,-4.591 ccw(c-21.817,-4.301) -21.85,-3.902 cw(c-21.9,-3.304) -22.206,-2.788 -18.79,-0.763 cw(c-18.637,-1.021) -18.44,-0.795 ccw(c-17.75,-0.004) -16.983,-0.721 -16.55,-0.721 -16.55,0.718 -16.984,0.718 ccw(c-17.75,0.001) -18.441,0.792 cw(c-18.638,1.018) -18.791,0.76 -22.206,2.785 cw(c-21.9,3.301) -21.851,3.899 ccw(c-21.818,4.298) -21.543,4.588 -22.312,5.315 cw(c-21.9,5.751) -21.488,6.187 -18.712,3.565 ccw(c-18.3,4.001) -17.735,4.203 -18.215,5.549 cw(c-17.65,5.751) -17.104,6 -15.396,2.252 ccw(c-14.85,2.501) -14.251,2.52 -14.35,5.732 cw(c-13.75,5.751) -13.15,5.758 -13.1,1.501 13.1,1.501 13.15,5.758 cw(c13.75,5.751) 14.349,5.732 14.25,2.52 ccw(c14.85,2.501) 15.396,2.252 17.103,6 cw(c17.649,5.751) 18.214,5.55 17.734,4.203 ccw(c18.299,4.002) 18.712,3.565 21.487,6.188 cw(c21.899,5.752) 22.311,5.316 21.542,4.589 ccw(c21.817,4.299) 21.85,3.9
3D body "HSINK_FISCHER_SK 409 38,1 STS_V.stp": height 38.1, standoff -4.5, extent -22.501,-6.352 22.5,6.354

## HSINK_FISCHER_SK 409 50,8 STS_V [mm] "Rth: 6.2°C/W - Extruded Heatsinks for PCB mounting"
height 38.1
pads (2):
  round 3.3 hole 2.6: 1(-17.75,0.002) 2(17.75,-0.004)
Top Overlay:
  lines w0.2: -19.405,1.124 -22.206,2.785 cw(c-21.9,3.301) -21.851,3.899 ccw(c-21.818,4.298) -21.543,4.588 -22.312,5.315 cw(c-21.9,5.751) -21.488,6.187 -18.712,3.565 ccw(c-18.3,4.001) -17.735,4.203 -18.215,5.549 cw(c-17.65,5.751) -17.104,6 -15.396,2.252 ccw(c-14.85,2.501) -14.251,2.52 -14.35,5.732 cw(c-13.75,5.751) -13.15,5.758 -13.1,1.501 13.1,1.501 13.15,5.758 cw(c13.75,5.751) 14.349,5.732 14.25,2.52 ccw(c14.85,2.501) 15.396,2.252 17.103,6 cw(c17.649,5.751) 18.214,5.55 17.734,4.203 ccw(c18.299,4.002) 18.712,3.565 21.487,6.188 cw(c21.899,5.752) 22.311,5.316 21.542,4.589 ccw(c21.817,4.299) 21.85,3.9 ; -19.403,-1.126 -22.206,-2.788 ccw(c-21.9,-3.304) -21.85,-3.902 cw(c-21.817,-4.301) -21.542,-4.591 -22.311,-5.318 ccw(c-21.899,-5.754) -21.487,-6.19 -18.711,-3.567 cw(c-18.299,-4.004) -17.734,-4.205 -18.214,-5.552 ccw(c-17.649,-5.753) -17.103,-6.002 -15.396,-2.254 cw(c-14.85,-2.503) -14.25,-2.522 -14.349,-5.734 ccw(c-13.749,-5.752) -13.149,-5.759 -13.1,-1.503 13.1,-1.499 13.151,-5.76 ccw(c13.751,-5.753) 14.351,-5.734 14.251,-2.518 cw(c14.85,-2.499) 15.396,-2.25 17.105,-5.997 ccw(c17.651,-5.748) 18.216,-5.547 17.736,-4.2 cw(c18.301,-3.998) 18.713,-3.562 21.489,-6.184 ccw(c21.901,-5.748) 22.313,-5.312 21.544,-4.585 cw(c21.818,-4.295) 21.851,-3.896 ccw(c21.901,-3.298) 22.207,-2.782 19.405,-1.122 ; -1.6,-1.501 -1.6,-0.899 ; -1.6,-0.299 -1.6,0.301 ; -1.6,0.901 -1.6,1.501 ; 1.6,-1.501 1.6,-0.899 ; 1.6,-0.299 1.6,0.301 ; 1.6,0.901 1.6,1.501 ; 19.405,1.125 22.206,2.786 ccw(c21.898,3.303) 21.817,3.899
Mechanical 8:
  lines w0.1: -18.75,0.002 -17.75,0.002 ; -17.75,-0.998 -17.75,0.002 ; -17.75,1.002 -17.75,0.002 ; -16.75,0.002 -17.75,0.002 ; -1,0 0,0 ; 0,-1 0,0 ; 0,1 0,0 ; 1,0 0,0 ; 16.75,-0.004 17.75,-0.004 ; 17.75,-1.004 17.75,-0.004 ; 17.75,0.996 17.75,-0.004 ; 18.75,-0.004 17.75,-0.004
Mechanical 14:
  circle w0.1: c17.75,-0.004 r1.15
  circle w0.1: c-17.75,-0.004 r1.15
  lines w0.1: -1.6,-1.501 -1.6,-0.899 ; -1.6,-0.299 -1.6,0.301 ; -1.6,0.901 -1.6,1.501 ; 1.6,-1.501 1.6,-0.899 ; 1.6,-0.299 1.6,0.301 ; 1.6,0.901 1.6,1.501 ; 21.817,3.899 cw(c21.898,3.303) 22.206,2.786 18.79,0.761 cw(c18.637,1.019) 18.44,0.793 ccw(c17.75,0.002) 16.983,0.719 16.55,0.719 16.55,-0.716 16.983,-0.716 ccw(c17.75,0.002) 18.44,-0.79 cw(c18.638,-1.016) 18.791,-0.758 22.207,-2.782 cw(c21.901,-3.298) 21.851,-3.896 ccw(c21.818,-4.295) 21.544,-4.585 22.313,-5.312 cw(c21.901,-5.748) 21.489,-6.184 18.713,-3.562 ccw(c18.301,-3.998) 17.736,-4.2 18.216,-5.547 cw(c17.651,-5.748) 17.105,-5.997 15.396,-2.25 ccw(c14.85,-2.499) 14.251,-2.518 14.351,-5.734 cw(c13.751,-5.753) 13.151,-5.76 13.1,-1.499 -13.1,-1.503 -13.149,-5.759 cw(c-13.749,-5.752) -14.349,-5.734 -14.25,-2.522 ccw(c-14.85,-2.503) -15.396,-2.254 -17.103,-6.002 cw(c-17.649,-5.753) -18.214,-5.552 -17.734,-4.205 ccw(c-18.299,-4.004) -18.711,-3.567 -21.487,-6.19 cw(c-21.899,-5.754) -22.311,-5.318 -21.542,-4.591 ccw(c-21.817,-4.301) -21.85,-3.902 cw(c-21.9,-3.304) -22.206,-2.788 -18.79,-0.763 cw(c-18.637,-1.021) -18.44,-0.795 ccw(c-17.75,-0.004) -16.983,-0.721 -16.55,-0.721 -16.55,0.718 -16.984,0.718 ccw(c-17.75,0.001) -18.441,0.792 cw(c-18.638,1.018) -18.791,0.76 -22.206,2.785 cw(c-21.9,3.301) -21.851,3.899 ccw(c-21.818,4.298) -21.543,4.588 -22.312,5.315 cw(c-21.9,5.751) -21.488,6.187 -18.712,3.565 ccw(c-18.3,4.001) -17.735,4.203 -18.215,5.549 cw(c-17.65,5.751) -17.104,6 -15.396,2.252 ccw(c-14.85,2.501) -14.251,2.52 -14.35,5.732 cw(c-13.75,5.751) -13.15,5.758 -13.1,1.501 13.1,1.501 13.15,5.758 cw(c13.75,5.751) 14.349,5.732 14.25,2.52 ccw(c14.85,2.501) 15.396,2.252 17.103,6 cw(c17.649,5.751) 18.214,5.55 17.734,4.203 ccw(c18.299,4.002) 18.712,3.565 21.487,6.188 cw(c21.899,5.752) 22.311,5.316 21.542,4.589 ccw(c21.817,4.299) 21.85,3.9
3D body "HSINK_FISCHER_SK 409 50,8 STS.stp": height 50.8, standoff -4.5, extent -22.5,-6.352 22.5,6.354

## HSINK_FISCHER_SK 454 20 1xM3 L [mm] "Black Anodised Extruded Heat Sink Rth: 10.1°C/W - Body L 19mm X W 20mm H 21.45mm (M3x0.5 Drilling for TO 220 )"
height 21.45
pads (1):
  round 2.9 hole 2.2: 1(0,0)
Top Overlay:
  lines w0.2: -9.5,-1.229 -8.5,-1.229 ; -9.5,1.229 -8.5,1.229 ; -7.5,-1.229 -6.5,-1.229 ; -7.5,1.229 -6.5,1.229 ; -6.5,-10 -6.5,-9 ; -6.5,-8 -6.5,-7 ; -6.5,-6 -6.5,-5 ; -6.5,-4 -6.5,-3 ; -6.5,-2 -6.5,-1 ; -6.5,-0.5 -6.5,0.5 ; -6.5,1 -6.5,2 ; -6.5,3 -6.5,4 ; -6.5,5 -6.5,6 ; -6.5,7 -6.5,8 ; -6.5,9 -6.5,10 ; -9.5,-10 -9.5,0 -9.5,10 9.5,10 9.5,-10 -9.5,-10
Mechanical 8:
  lines w0.1: -0.5,0 0,0 ; 0,-0.5 0,0 ; 0,0.5 0,0 ; 0.5,0 0,0
Mechanical 14:
  circle w0.1: c0,0 r0.75
  circle w0.1: c0,0 r1
  lines w0.1: -9.5,-1.229 -8.5,-1.229 ; -9.5,1.229 -8.5,1.229 ; -7.5,-1.229 -6.5,-1.229 ; -7.5,1.229 -6.5,1.229 ; -6.5,-10 -6.5,-9 ; -6.5,-8 -6.5,-7 ; -6.5,-6 -6.5,-5 ; -6.5,-4 -6.5,-3 ; -6.5,-2 -6.5,-1 ; -6.5,-0.5 -6.5,0.5 ; -6.5,1 -6.5,2 ; -6.5,3 -6.5,4 ; -6.5,5 -6.5,6 ; -6.5,7 -6.5,8 ; -6.5,9 -6.5,10 ; -9.5,-10 -9.5,0 -9.5,10 9.5,10 9.5,-10 -9.5,-10
3D body "HSINK_FISCHER_SK 454 20 1xM3 L.stp": height 21.45, standoff -3.9, extent -9.5,-10 9.5,10

## HSINK_FISCHER_SK 481 84 SA [mm] "L84 x W30 x H45mm, Black anodised Extruded Heatsink for PCB with M3 Profile Thread for Screw Mounting"
height 45
Top Overlay:
  lines w0.2: -42,-4 -40.5,-4 ; -42,4 -40.5,4 ; -39.5,-4 -38.5,-4 ; -39.5,4 -38.5,4 ; -37.5,-4 -36.5,-4 ; -37.5,4 -36.5,4 ; -35.5,-4 -34.5,-4 ; -35.5,4 -34.5,4 ; -33.5,-4 -32.5,-4 ; -33.5,4 -32.5,4 ; -31.5,-4 -30.5,-4 ; -31.5,4 -30.5,4 ; -29.5,-4 -28.5,-4 ; -29.5,4 -28.5,4 ; -27.5,-4 -26.5,-4 ; -27.5,4 -26.5,4 ; -25.5,-4 -24.5,-4 ; -25.5,4 -24.5,4 ; -23.5,-4 -22.5,-4 ; -23.5,4 -22.5,4 ; -21.5,-4 -20.5,-4 ; -21.5,4 -20.5,4 ; -19.5,-4 -18.5,-4 ; -19.5,4 -18.5,4 ; -17.5,-4 -16.5,-4 ; -17.5,4 -16.5,4 ; -15.5,-4 -14.5,-4 ; -15.5,4 -14.5,4 ; -13.5,-4 -12.5,-4 ; -13.5,4 -12.5,4 ; -11.5,-4 -10.5,-4 ; -11.5,4 -10.5,4 ; -9.5,-4 -8.5,-4 ; -9.5,4 -8.5,4 ; -7.5,-4 -6.5,-4 ; -7.5,4 -6.5,4 ; -5.5,-4 -4.5,-4 ; -5.5,4 -4.5,4 ; -3.5,-4 -2.5,-4 ; -3.5,4 -2.5,4 ; -1.5,-4 -0.5,-4 ; -1.5,4 -0.5,4 ; 0.5,-4 1.5,-4 ; 0.5,4 1.5,4 ; 2.5,-4 3.5,-4 ; 2.5,4 3.5,4 ; 4.5,-4 5.5,-4 ; 4.5,4 5.5,4 ; 6.5,-4 7.5,-4 ; 6.5,4 7.5,4 ; 8.5,-4 9.5,-4 ; 8.5,4 9.5,4 ; 10.5,-4 11.5,-4 ; 10.5,4 11.5,4 ; 12.5,-4 13.5,-4 ; 12.5,4 13.5,4 ; 14.5,-4 15.5,-4 ; 14.5,4 15.5,4 ; 16.5,-4 17.5,-4 ; 16.5,4 17.5,4 ; 18.5,-4 19.5,-4 ; 18.5,4 19.5,4 ; 20.5,-4 21.5,-4 ; 20.5,4 21.5,4 ; 22.5,-4 23.5,-4 ; 22.5,4 23.5,4 ; 24.5,-4 25.5,-4 ; 24.5,4 25.5,4 ; 26.5,-4 27.5,-4 ; 26.5,4 27.5,4 ; 28.5,-4 29.5,-4 ; 28.5,4 29.5,4 ; 30.5,-4 31.5,-4 ; 30.5,4 31.5,4 ; 32.5,-4 33.5,-4 ; 32.5,4 33.5,4 ; 34.5,-4 35.5,-4 ; 34.5,4 35.5,4 ; 36.5,-4 37.5,-4 ; 36.5,4 37.5,4 ; 38.5,-4 39.5,-4 ; 38.5,4 39.5,4 ; 40.5,-4 42,-4 ; 40.5,4 42,4 ; -42,-9 42,-9 42,21 -42,21 -42,-9
Mechanical 8:
  lines w0.1: -42,0 42,0 ; -0.5,0 0,0 ; 0,-0.5 0,0 ; 0,0.5 0,0 ; 0.5,0 0,0
Mechanical 14:
  lines w0.1: -42,-4 -40.5,-4 ; -42,4 -40.5,4 ; -39.5,-4 -38.5,-4 ; -39.5,4 -38.5,4 ; -37.5,-4 -36.5,-4 ; -37.5,4 -36.5,4 ; -35.5,-4 -34.5,-4 ; -35.5,4 -34.5,4 ; -33.5,-4 -32.5,-4 ; -33.5,4 -32.5,4 ; -31.5,-4 -30.5,-4 ; -31.5,4 -30.5,4 ; -29.5,-4 -28.5,-4 ; -29.5,4 -28.5,4 ; -27.5,-4 -26.5,-4 ; -27.5,4 -26.5,4 ; -25.5,-4 -24.5,-4 ; -25.5,4 -24.5,4 ; -23.5,-4 -22.5,-4 ; -23.5,4 -22.5,4 ; -21.5,-4 -20.5,-4 ; -21.5,4 -20.5,4 ; -19.5,-4 -18.5,-4 ; -19.5,4 -18.5,4 ; -17.5,-4 -16.5,-4 ; -17.5,4 -16.5,4 ; -15.5,-4 -14.5,-4 ; -15.5,4 -14.5,4 ; -13.5,-4 -12.5,-4 ; -13.5,4 -12.5,4 ; -11.5,-4 -10.5,-4 ; -11.5,4 -10.5,4 ; -9.5,-4 -8.5,-4 ; -9.5,4 -8.5,4 ; -7.5,-4 -6.5,-4 ; -7.5,4 -6.5,4 ; -5.5,-4 -4.5,-4 ; -5.5,4 -4.5,4 ; -3.5,-4 -2.5,-4 ; -3.5,4 -2.5,4 ; -1.5,-4 -0.5,-4 ; -1.5,4 -0.5,4 ; 0.5,-4 1.5,-4 ; 0.5,4 1.5,4 ; 2.5,-4 3.5,-4 ; 2.5,4 3.5,4 ; 4.5,-4 5.5,-4 ; 4.5,4 5.5,4 ; 6.5,-4 7.5,-4 ; 6.5,4 7.5,4 ; 8.5,-4 9.5,-4 ; 8.5,4 9.5,4 ; 10.5,-4 11.5,-4 ; 10.5,4 11.5,4 ; 12.5,-4 13.5,-4 ; 12.5,4 13.5,4 ; 14.5,-4 15.5,-4 ; 14.5,4 15.5,4 ; 16.5,-4 17.5,-4 ; 16.5,4 17.5,4 ; 18.5,-4 19.5,-4 ; 18.5,4 19.5,4 ; 20.5,-4 21.5,-4 ; 20.5,4 21.5,4 ; 22.5,-4 23.5,-4 ; 22.5,4 23.5,4 ; 24.5,-4 25.5,-4 ; 24.5,4 25.5,4 ; 26.5,-4 27.5,-4 ; 26.5,4 27.5,4 ; 28.5,-4 29.5,-4 ; 28.5,4 29.5,4 ; 30.5,-4 31.5,-4 ; 30.5,4 31.5,4 ; 32.5,-4 33.5,-4 ; 32.5,4 33.5,4 ; 34.5,-4 35.5,-4 ; 34.5,4 35.5,4 ; 36.5,-4 37.5,-4 ; 36.5,4 37.5,4 ; 38.5,-4 39.5,-4 ; 38.5,4 39.5,4 ; 40.5,-4 42,-4 ; 40.5,4 42,4 ; -42,-9 42,-9 42,21 -42,21 -42,-9
3D body "HSINK_FISCHER_SK 481 84 SA.stp": height 45, standoff 0, extent -42,-8.998 42,20.998